# Altium schematic symbol library EEG.SchLib: 6 symbols
Pins are listed as number, name and electrical type; pins without a type are passive.

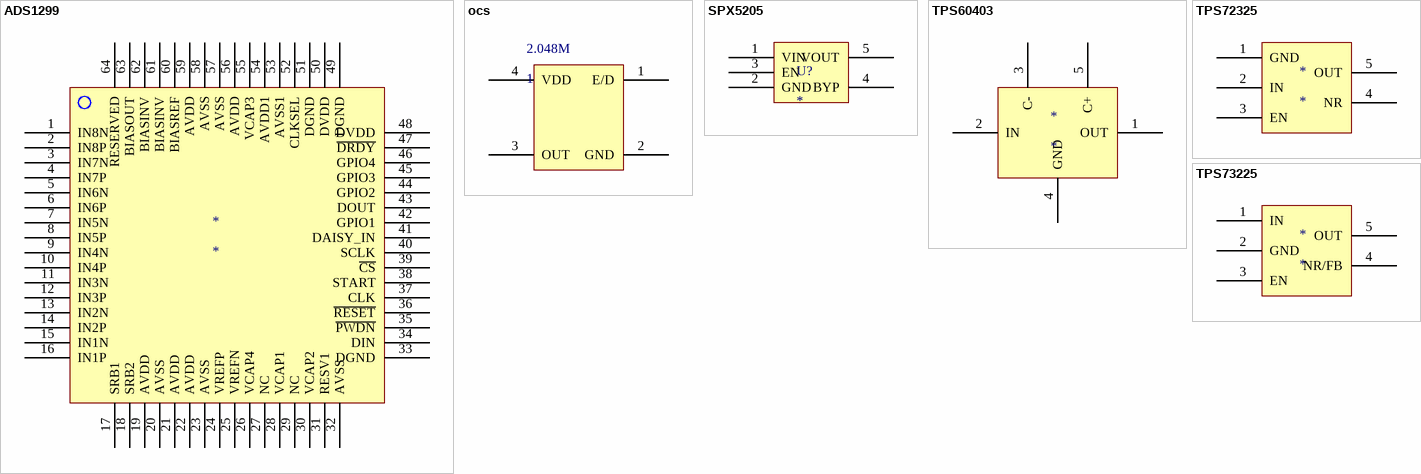
[diagram p0: symbols ADS1299 to TPS73225]

## ADS1299
designator *
pins: 1 IN8N, 2 IN8P, 3 IN7N, 4 IN7P, 5 IN6N, 6 IN6P, 7 IN5N, 8 IN5P, 9 IN4N, 10 IN4P, 11 IN3N, 12 IN3P, 13 IN2N, 14 IN2P, 15 IN1N, 16 IN1P, 17 SRB1, 18 SRB2, 19 AVDD, 20 AVSS, 21 AVDD, 22 AVDD, 23 AVSS, 24 VREFP, 25 VREFN, 26 VCAP4, 27 NC, 28 VCAP1, 29 NC, 30 VCAP2, 31 RESV1, 32 AVSS, 33 DGND, 34 DIN, 35 ~{PWDN}, 36 ~{RESET}, 37 CLK, 38 START, 39 ~{CS}, 40 SCLK, 41 DAISY_IN, 42 GPIO1, 43 DOUT, 44 GPIO2, 45 GPIO3, 46 GPIO4, 47 ~{DRDY}, 48 DVDD, 49 DGND, 50 DVDD, 51 DGND, 52 CLKSEL, 53 AVSS1, 54 AVDD1, 55 VCAP3, 56 AVDD, 57 AVSS, 58 AVSS, 59 AVDD, 60 BIASREF, 61 BIASINV, 62 BIASINV, 63 BIASOUT, 64 RESERVED

## ocs
designator 2.048M, comment 1
pins: 1 E/D, 2 GND, 3 OUT, 4 VDD

## SPX5205
designator U?
pins: 1 VIN, 2 GND, 3 EN, 4 BYP, 5 VOUT

## TPS60403
designator *
pins: 1 OUT, 2 IN, 3 C-, 4 GND, 5 C+

## TPS72325
designator *
pins: 1 GND, 2 IN, 3 EN, 4 NR, 5 OUT

## TPS73225
designator *
pins: 1 IN, 2 GND, 3 EN, 4 NR/FB, 5 OUT